# EAGLE library part MMA8451Q (library everykey)
MEMS-Beschleunigungssensor 3 Achsen. 1,8-3,3V I2C 2-800 Hz. Pinkompatibel: MMA8451Q: 14 Bit MMA8452Q: 12 Bit MMA8453Q: 10 Bit
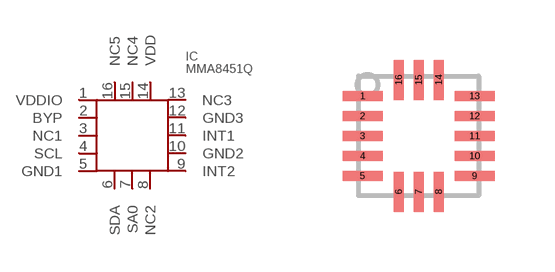
[diagram p7: symbol with the pads of QFN_COL_16; footprint QFN_COL_16]

Designator prefix IC

## MMA8451QQFN  [QFN_COL_16]
1  VDDIO  pwr
2  BYP  in
3  NC1  nc
4  SCL  oc
5  GND1  pwr
6  SDA  oc
7  SA0  in
8  NC2  nc
9  INT2  out
10  GND2  pwr
11  INT1  out
12  GND3  pwr
13  NC3  nc
14  VDD  pwr
15  NC4  nc
16  NC5  nc

## Footprint QFN_COL_16 (pad centres in mm)
smd 1 x 0.25: 1 -1.4,1; 2 -1.4,0.5; 3 -1.4,0; 4 -1.4,-0.5; 5 -1.4,-1; 9 1.4,-1; 10 1.4,-0.5; 11 1.4,0; 12 1.4,0.5; 13 1.4,1
smd 0.25 x 1: 6 -0.5,-1.4; 7 0,-1.4; 8 0.5,-1.4; 14 0.5,1.4; 15 0,1.4; 16 -0.5,1.4